# EAGLE library part CLP6C-FKB (library PP_LED)
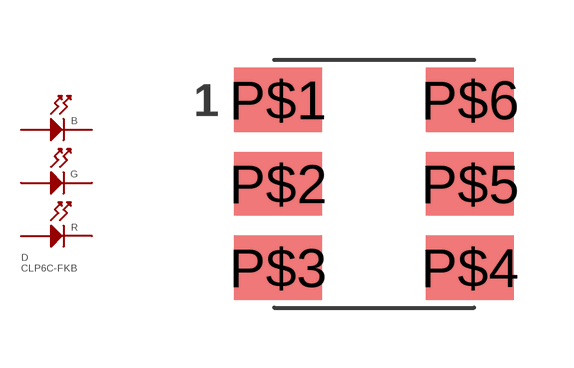
[diagram p4: symbol with the pads of PLCC-6; footprint PLCC-6]

Designator prefix D

## CLP6C-FKB_PLCC-6  [PLCC-6]
P$1  ANODE_RED
P$2  ANODE_GREEN
P$3  ANODE_BLUE
P$4  CATHODE_BLUE
P$5  CATHODE_GREEN
P$6  CATHODE_RED

## Footprint PLCC-6 (pad centres in mm)
smd 2.2 x 1.6: P$1 -2.4,2.1; P$2 -2.4,0; P$3 -2.4,-2.1; P$4 2.4,-2.1; P$5 2.4,0; P$6 2.4,2.1